# EAGLE library part ACS711 (library misc_devices)
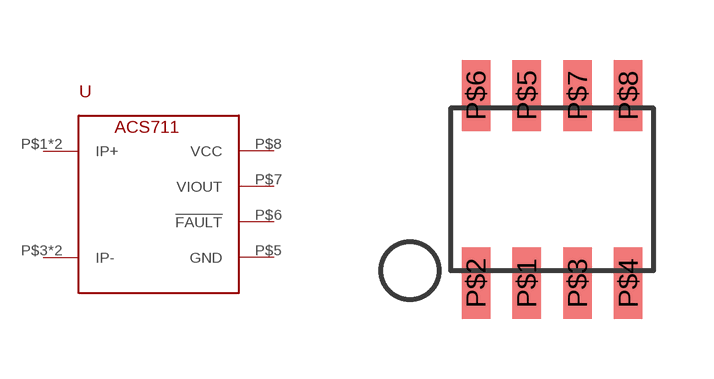
[diagram p2: symbol with the pads of SOIC8; footprint SOIC8]

Designator prefix -

## ACS711  [SOIC8]
P$1  IP+
P$2  IP+
P$3  IP-
P$4  IP-
P$5  GND
P$6  !FAULT
P$7  VIOUT
P$8  VCC

## Footprint SOIC8 (pad centres in mm)
smd 0.711 x 1.778: P$1 -0.635,-2.349; P$2 -1.905,-2.349; P$3 0.635,-2.349; P$4 1.905,-2.349; P$5 -0.635,2.349; P$6 -1.905,2.349; P$7 0.635,2.349; P$8 1.905,2.349